# EAGLE library part LS7366R (library Ooo-IC-Specialized)
LSI Computer Systems LS7366R 32-BIT QUADRATURE COUNTER WITH SERIAL INTERFACE
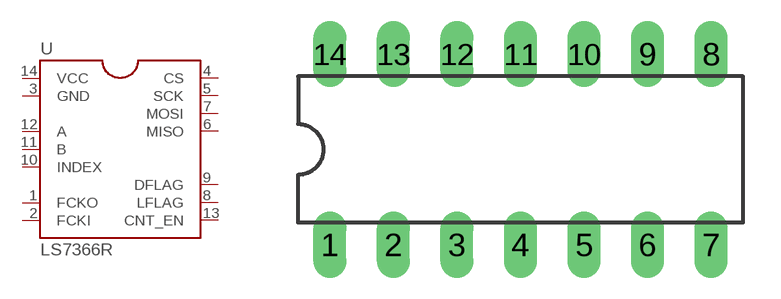
[diagram p0: symbol with the pads of DIL14; footprint DIL14]

Designator prefix U

## LS7366R  [DIL14]
1  FCKO  out
2  FCKI  in
3  GND  pwr
4  CS  in
5  SCK  in
6  MISO  out
7  MOSI  in
8  LFLAG  out
9  DFLAG  out
10  INDEX  in
11  B  in
12  A  in
13  CNT_EN  in
14  VCC  pwr

## Footprint DIL14 (pad centres in mm)
Dual In Line Package
drill 0.813 long: 1 -7.62,-3.81; 2 -5.08,-3.81; 3 -2.54,-3.81; 4 0,-3.81; 5 2.54,-3.81; 6 5.08,-3.81; 7 7.62,-3.81; 8 7.62,3.81; 9 5.08,3.81; 10 2.54,3.81; 11 0,3.81; 12 -2.54,3.81; 13 -5.08,3.81; 14 -7.62,3.81